# Altium footprint library Connector_Wire.PcbLib: 290 footprints (part 10 of 19)
Each footprint in its own frame and in the unit in brackets; x right, y up, seen from the top. Pads: shape width x height; smd on the part's side, far side on the other; paste and mask are expansions set on the pad; w line width, h text height; cw(c..) or ccw(c..) is an arc to the next point about the centre after c.
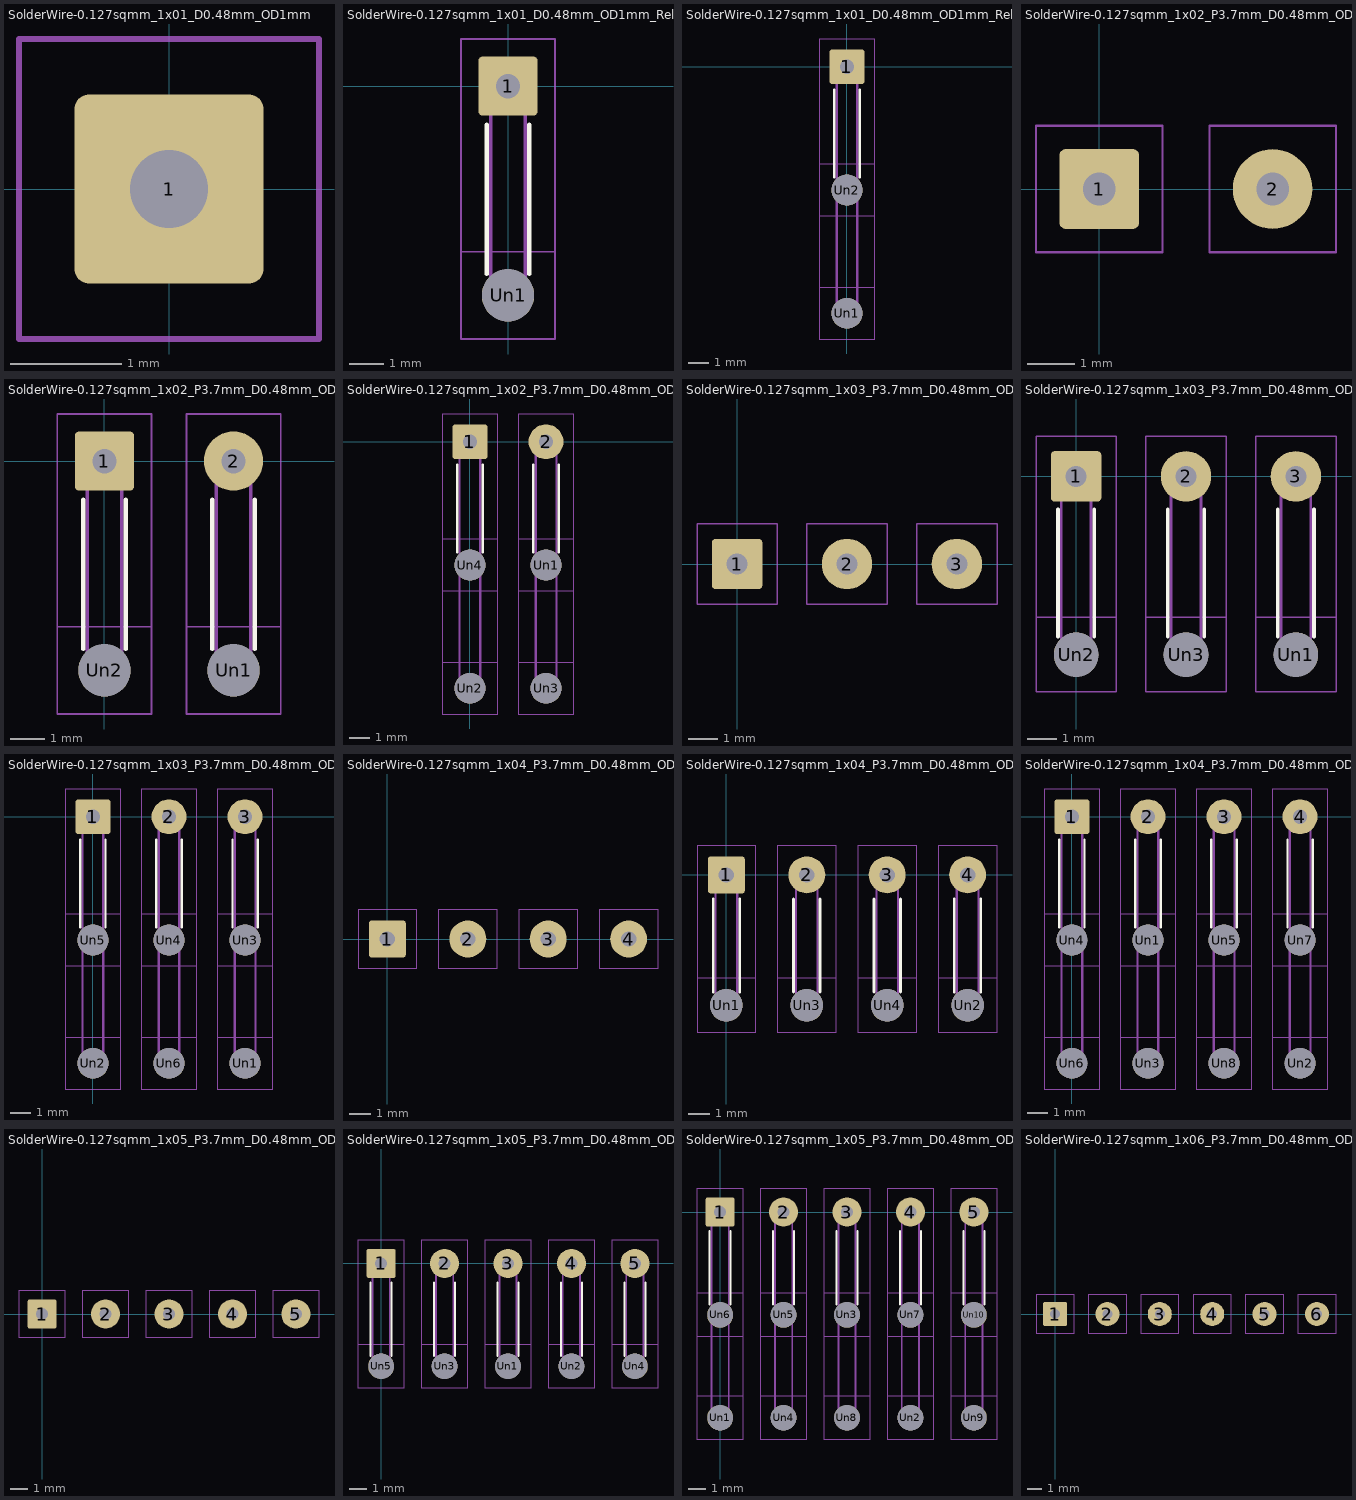
[diagram p9: the footprints below, top view; thin cyan lines are the x and y axes]

## SolderWire-0.127sqmm_1x01_D0.48mm_OD1mm [mm]
pads (1):
  rrect15% 1.7x1.7 hole 0.7: 1(0,0)
F.CrtYd:
  lines w0.05: -1.35,-1.35 1.35,-1.35 1.35,1.35 -1.35,1.35 -1.35,-1.35
F.Fab:
  circle w0.1: c0,0 r0.5
  text "'.Designator'" at -1.014,-0.213 h0.25

## SolderWire-0.127sqmm_1x01_D0.48mm_OD1mm_Relief [mm]
pads (2):
  rrect15% 1.7x1.7 hole 0.7: 1(0,0)
  round 1.5 hole 1.5: Un1(0,-6)
F.SilkS:
  lines w0.12: -0.61,-5.39 -0.61,-1.11 ; 0.61,-5.39 0.61,-1.11
B.CrtYd:
  lines w0.05: -1.35,-7.25 1.35,-7.25 1.35,-4.75 -1.35,-4.75 -1.35,-7.25
F.CrtYd:
  lines w0.05: -1.35,-7.25 -1.35,1.35 1.35,1.35 1.35,-7.25 -1.35,-7.25
F.Fab:
  circle w0.1: c0,0 r0.5
  circle w0.1: c0,-6 r0.5
  lines w0.1: -0.5,-6 -0.5,0 ; 0.5,-6 0.5,0
  text "'.Designator'" at 0.672,-6.237 h0.8

## SolderWire-0.127sqmm_1x01_D0.48mm_OD1mm_Relief2x [mm]
pads (3):
  rrect15% 1.7x1.7 hole 0.7: 1(0,0)
  round 1.5 hole 1.5: Un1(0,-12) Un2(0,-6)
F.SilkS:
  lines w0.12: -0.61,-5.39 -0.61,-1.11 ; 0.61,-5.39 0.61,-1.11
B.SilkS:
  lines w0.12: -0.61,-11.39 -0.61,-6.61 ; 0.61,-11.39 0.61,-6.61
B.CrtYd:
  lines w0.05: -1.35,-13.25 1.35,-13.25 1.35,-4.75 -1.35,-4.75 -1.35,-13.25
F.CrtYd:
  lines w0.05: -1.35,-13.25 -1.35,-10.75 1.35,-10.75 1.35,-13.25 -1.35,-13.25 ; -1.35,-7.25 -1.35,1.35 1.35,1.35 1.35,-7.25 -1.35,-7.25
B.Fab:
  circle w0.1: c0,-6 r0.5
  circle w0.1: c0,-12 r0.5
  lines w0.1: -0.5,-12 -0.5,-6 ; 0.5,-12 0.5,-6
F.Fab:
  circle w0.1: c0,0 r0.5
  circle w0.1: c0,-12 r0.5
  circle w0.1: c0,-6 r0.5
  lines w0.1: -0.5,-6 -0.5,0 ; 0.5,-6 0.5,0
  text "'.Designator'" at 0.672,-6.237 h0.8

## SolderWire-0.127sqmm_1x02_P3.7mm_D0.48mm_OD1mm [mm]
pads (2):
  rrect15% 1.7x1.7 hole 0.7: 1(0,0)
  round 1.7 hole 0.7: 2(3.7,0)
F.CrtYd:
  lines w0.05: -1.35,-1.35 -1.35,1.35 1.35,1.35 1.35,-1.35 -1.35,-1.35 ; 2.35,-1.35 2.35,1.35 5.05,1.35 5.05,-1.35 2.35,-1.35
F.Fab:
  circle w0.1: c3.7,0 r0.5
  circle w0.1: c0,0 r0.5
  text "'.Designator'" at 2.419,-2.75 h0.68

## SolderWire-0.127sqmm_1x02_P3.7mm_D0.48mm_OD1mm_Relief [mm]
pads (4):
  rrect15% 1.7x1.7 hole 0.7: 1(0,0)
  round 1.7 hole 0.7: 2(3.7,0)
  round 1.5 hole 1.5: Un1(3.7,-6) Un2(0,-6)
F.SilkS:
  lines w0.12: -0.61,-5.39 -0.61,-1.11 ; 0.61,-5.39 0.61,-1.11 ; 3.09,-5.39 3.09,-1.11 ; 4.31,-5.39 4.31,-1.11
B.CrtYd:
  lines w0.05: -1.35,-7.25 1.35,-7.25 1.35,-4.75 -1.35,-4.75 -1.35,-7.25 ; 2.35,-7.25 2.35,-4.75 5.05,-4.75 5.05,-7.25 2.35,-7.25
F.CrtYd:
  lines w0.05: -1.35,-7.25 -1.35,1.35 1.35,1.35 1.35,-7.25 -1.35,-7.25 ; 2.35,-7.25 2.35,1.35 5.05,1.35 5.05,-7.25 2.35,-7.25
F.Fab:
  circle w0.1: c0,0 r0.5
  circle w0.1: c3.7,0 r0.5
  circle w0.1: c0,-6 r0.5
  circle w0.1: c3.7,-6 r0.5
  lines w0.1: -0.5,-6 -0.5,0 ; 0.5,-6 0.5,0 ; 3.2,-6 3.2,0 ; 4.2,-6 4.2,0
  text "'.Designator'" at 2.522,-6.237 h0.8

## SolderWire-0.127sqmm_1x02_P3.7mm_D0.48mm_OD1mm_Relief2x [mm]
pads (6):
  rrect15% 1.7x1.7 hole 0.7: 1(0,0)
  round 1.7 hole 0.7: 2(3.7,0)
  round 1.5 hole 1.5: Un1(3.7,-6) Un2(0,-12) Un3(3.7,-12) Un4(0,-6)
F.SilkS:
  lines w0.12: -0.61,-5.39 -0.61,-1.11 ; 0.61,-5.39 0.61,-1.11 ; 3.09,-5.39 3.09,-1.11 ; 4.31,-5.39 4.31,-1.11
B.SilkS:
  lines w0.12: -0.61,-11.39 -0.61,-6.61 ; 0.61,-11.39 0.61,-6.61 ; 3.09,-11.39 3.09,-6.61 ; 4.31,-11.39 4.31,-6.61
B.CrtYd:
  lines w0.05: -1.35,-13.25 -1.35,-4.75 1.35,-4.75 1.35,-13.25 -1.35,-13.25 ; 2.35,-13.25 5.05,-13.25 5.05,-4.75 2.35,-4.75 2.35,-13.25
F.CrtYd:
  lines w0.05: -1.35,-13.25 1.35,-13.25 1.35,-10.75 -1.35,-10.75 -1.35,-13.25 ; -1.35,-7.25 -1.35,1.35 1.35,1.35 1.35,-7.25 -1.35,-7.25 ; 2.35,-13.25 2.35,-10.75 5.05,-10.75 5.05,-13.25 2.35,-13.25 ; 2.35,-7.25 2.35,1.35 5.05,1.35 5.05,-7.25 2.35,-7.25
B.Fab:
  circle w0.1: c0,-6 r0.5
  circle w0.1: c3.7,-12 r0.5
  circle w0.1: c3.7,-6 r0.5
  circle w0.1: c0,-12 r0.5
  lines w0.1: -0.5,-12 -0.5,-6 ; 0.5,-12 0.5,-6 ; 3.2,-12 3.2,-6 ; 4.2,-12 4.2,-6
F.Fab:
  circle w0.1: c0,-12 r0.5
  circle w0.1: c3.7,-6 r0.5
  circle w0.1: c3.7,0 r0.5
  circle w0.1: c3.7,-12 r0.5
  circle w0.1: c0,0 r0.5
  circle w0.1: c0,-6 r0.5
  lines w0.1: -0.5,-6 -0.5,0 ; 0.5,-6 0.5,0 ; 3.2,-6 3.2,0 ; 4.2,-6 4.2,0
  text "'.Designator'" at 2.522,-6.237 h0.8

## SolderWire-0.127sqmm_1x03_P3.7mm_D0.48mm_OD1mm [mm]
pads (3):
  rrect15% 1.7x1.7 hole 0.7: 1(0,0)
  round 1.7 hole 0.7: 2(3.7,0) 3(7.4,0)
F.CrtYd:
  lines w0.05: -1.35,-1.35 1.35,-1.35 1.35,1.35 -1.35,1.35 -1.35,-1.35 ; 2.35,-1.35 5.05,-1.35 5.05,1.35 2.35,1.35 2.35,-1.35 ; 6.05,-1.35 6.05,1.35 8.75,1.35 8.75,-1.35 6.05,-1.35
F.Fab:
  circle w0.1: c0,0 r0.5
  circle w0.1: c3.7,0 r0.5
  circle w0.1: c7.4,0 r0.5
  text "'.Designator'" at 2.686,-0.213 h0.25

## SolderWire-0.127sqmm_1x03_P3.7mm_D0.48mm_OD1mm_Relief [mm]
pads (6):
  rrect15% 1.7x1.7 hole 0.7: 1(0,0)
  round 1.7 hole 0.7: 2(3.7,0) 3(7.4,0)
  round 1.5 hole 1.5: Un1(7.4,-6) Un2(0,-6) Un3(3.7,-6)
F.SilkS:
  lines w0.12: -0.61,-5.39 -0.61,-1.11 ; 0.61,-5.39 0.61,-1.11 ; 3.09,-5.39 3.09,-1.11 ; 4.31,-5.39 4.31,-1.11 ; 6.79,-5.39 6.79,-1.11 ; 8.01,-5.39 8.01,-1.11
B.CrtYd:
  lines w0.05: -1.35,-7.25 -1.35,-4.75 1.35,-4.75 1.35,-7.25 -1.35,-7.25 ; 2.35,-7.25 2.35,-4.75 5.05,-4.75 5.05,-7.25 2.35,-7.25 ; 6.05,-7.25 6.05,-4.75 8.75,-4.75 8.75,-7.25 6.05,-7.25
F.CrtYd:
  lines w0.05: -1.35,-7.25 1.35,-7.25 1.35,1.35 -1.35,1.35 -1.35,-7.25 ; 2.35,-7.25 5.05,-7.25 5.05,1.35 2.35,1.35 2.35,-7.25 ; 6.05,-7.25 6.05,1.35 8.75,1.35 8.75,-7.25 6.05,-7.25
F.Fab:
  circle w0.1: c0,0 r0.5
  circle w0.1: c7.4,0 r0.5
  circle w0.1: c7.4,-6 r0.5
  circle w0.1: c3.7,0 r0.5
  circle w0.1: c0,-6 r0.5
  circle w0.1: c3.7,-6 r0.5
  lines w0.1: -0.5,-6 -0.5,0 ; 0.5,-6 0.5,0 ; 3.2,-6 3.2,0 ; 4.2,-6 4.2,0 ; 6.9,-6 6.9,0 ; 7.9,-6 7.9,0
  text "'.Designator'" at 4.372,-6.237 h0.8

## SolderWire-0.127sqmm_1x03_P3.7mm_D0.48mm_OD1mm_Relief2x [mm]
pads (9):
  rrect15% 1.7x1.7 hole 0.7: 1(0,0)
  round 1.7 hole 0.7: 2(3.7,0) 3(7.4,0)
  round 1.5 hole 1.5: Un1(7.4,-12) Un2(0,-12) Un3(7.4,-6) Un4(3.7,-6) Un5(0,-6) Un6(3.7,-12)
F.SilkS:
  lines w0.12: -0.61,-5.39 -0.61,-1.11 ; 0.61,-5.39 0.61,-1.11 ; 3.09,-5.39 3.09,-1.11 ; 4.31,-5.39 4.31,-1.11 ; 6.79,-5.39 6.79,-1.11 ; 8.01,-5.39 8.01,-1.11
B.SilkS:
  lines w0.12: -0.61,-11.39 -0.61,-6.61 ; 0.61,-11.39 0.61,-6.61 ; 3.09,-11.39 3.09,-6.61 ; 4.31,-11.39 4.31,-6.61 ; 6.79,-11.39 6.79,-6.61 ; 8.01,-11.39 8.01,-6.61
B.CrtYd:
  lines w0.05: -1.35,-13.25 1.35,-13.25 1.35,-4.75 -1.35,-4.75 -1.35,-13.25 ; 2.35,-13.25 5.05,-13.25 5.05,-4.75 2.35,-4.75 2.35,-13.25 ; 6.05,-13.25 8.75,-13.25 8.75,-4.75 6.05,-4.75 6.05,-13.25
F.CrtYd:
  lines w0.05: -1.35,-13.25 -1.35,-10.75 1.35,-10.75 1.35,-13.25 -1.35,-13.25 ; -1.35,-7.25 -1.35,1.35 1.35,1.35 1.35,-7.25 -1.35,-7.25 ; 2.35,-13.25 2.35,-10.75 5.05,-10.75 5.05,-13.25 2.35,-13.25 ; 2.35,-7.25 2.35,1.35 5.05,1.35 5.05,-7.25 2.35,-7.25 ; 6.05,-13.25 8.75,-13.25 8.75,-10.75 6.05,-10.75 6.05,-13.25 ; 6.05,-7.25 8.75,-7.25 8.75,1.35 6.05,1.35 6.05,-7.25
B.Fab:
  circle w0.1: c3.7,-12 r0.5
  circle w0.1: c0,-6 r0.5
  circle w0.1: c3.7,-6 r0.5
  circle w0.1: c0,-12 r0.5
  circle w0.1: c7.4,-6 r0.5
  circle w0.1: c7.4,-12 r0.5
  lines w0.1: -0.5,-12 -0.5,-6 ; 0.5,-12 0.5,-6 ; 3.2,-12 3.2,-6 ; 4.2,-12 4.2,-6 ; 6.9,-12 6.9,-6 ; 7.9,-12 7.9,-6
F.Fab:
  circle w0.1: c7.4,-12 r0.5
  circle w0.1: c0,0 r0.5
  circle w0.1: c3.7,-6 r0.5
  circle w0.1: c3.7,0 r0.5
  circle w0.1: c0,-12 r0.5
  circle w0.1: c7.4,0 r0.5
  circle w0.1: c0,-6 r0.5
  circle w0.1: c7.4,-6 r0.5
  circle w0.1: c3.7,-12 r0.5
  lines w0.1: -0.5,-6 -0.5,0 ; 0.5,-6 0.5,0 ; 3.2,-6 3.2,0 ; 4.2,-6 4.2,0 ; 6.9,-6 6.9,0 ; 7.9,-6 7.9,0
  text "'.Designator'" at 4.372,-6.237 h0.8

## SolderWire-0.127sqmm_1x04_P3.7mm_D0.48mm_OD1mm [mm]
pads (4):
  rrect15% 1.7x1.7 hole 0.7: 1(0,0)
  round 1.7 hole 0.7: 2(3.7,0) 3(7.4,0) 4(11.1,0)
F.CrtYd:
  lines w0.05: -1.35,-1.35 1.35,-1.35 1.35,1.35 -1.35,1.35 -1.35,-1.35 ; 2.35,-1.35 2.35,1.35 5.05,1.35 5.05,-1.35 2.35,-1.35 ; 6.05,-1.35 8.75,-1.35 8.75,1.35 6.05,1.35 6.05,-1.35 ; 9.75,-1.35 12.45,-1.35 12.45,1.35 9.75,1.35 9.75,-1.35
F.Fab:
  circle w0.1: c3.7,0 r0.5
  circle w0.1: c0,0 r0.5
  circle w0.1: c11.1,0 r0.5
  circle w0.1: c7.4,0 r0.5
  text "'.Designator'" at 6.119,-2.75 h0.68

## SolderWire-0.127sqmm_1x04_P3.7mm_D0.48mm_OD1mm_Relief [mm]
pads (8):
  rrect15% 1.7x1.7 hole 0.7: 1(0,0)
  round 1.7 hole 0.7: 2(3.7,0) 3(7.4,0) 4(11.1,0)
  round 1.5 hole 1.5: Un1(0,-6) Un2(11.1,-6) Un3(3.7,-6) Un4(7.4,-6)
F.SilkS:
  lines w0.12: -0.61,-5.39 -0.61,-1.11 ; 0.61,-5.39 0.61,-1.11 ; 3.09,-5.39 3.09,-1.11 ; 4.31,-5.39 4.31,-1.11 ; 6.79,-5.39 6.79,-1.11 ; 8.01,-5.39 8.01,-1.11 ; 10.49,-5.39 10.49,-1.11 ; 11.71,-5.39 11.71,-1.11
B.CrtYd:
  lines w0.05: -1.35,-7.25 1.35,-7.25 1.35,-4.75 -1.35,-4.75 -1.35,-7.25 ; 2.35,-7.25 5.05,-7.25 5.05,-4.75 2.35,-4.75 2.35,-7.25 ; 6.05,-7.25 6.05,-4.75 8.75,-4.75 8.75,-7.25 6.05,-7.25 ; 9.75,-7.25 9.75,-4.75 12.45,-4.75 12.45,-7.25 9.75,-7.25
F.CrtYd:
  lines w0.05: -1.35,-7.25 -1.35,1.35 1.35,1.35 1.35,-7.25 -1.35,-7.25 ; 2.35,-7.25 5.05,-7.25 5.05,1.35 2.35,1.35 2.35,-7.25 ; 6.05,-7.25 8.75,-7.25 8.75,1.35 6.05,1.35 6.05,-7.25 ; 9.75,-7.25 9.75,1.35 12.45,1.35 12.45,-7.25 9.75,-7.25
F.Fab:
  circle w0.1: c3.7,-6 r0.5
  circle w0.1: c0,-6 r0.5
  circle w0.1: c11.1,-6 r0.5
  circle w0.1: c7.4,0 r0.5
  circle w0.1: c3.7,0 r0.5
  circle w0.1: c0,0 r0.5
  circle w0.1: c7.4,-6 r0.5
  circle w0.1: c11.1,0 r0.5
  lines w0.1: -0.5,-6 -0.5,0 ; 0.5,-6 0.5,0 ; 3.2,-6 3.2,0 ; 4.2,-6 4.2,0 ; 6.9,-6 6.9,0 ; 7.9,-6 7.9,0 ; 10.6,-6 10.6,0 ; 11.6,-6 11.6,0
  text "'.Designator'" at 6.222,-6.237 h0.8

## SolderWire-0.127sqmm_1x04_P3.7mm_D0.48mm_OD1mm_Relief2x [mm]
pads (12):
  rrect15% 1.7x1.7 hole 0.7: 1(0,0)
  round 1.7 hole 0.7: 2(3.7,0) 3(7.4,0) 4(11.1,0)
  round 1.5 hole 1.5: Un1(3.7,-6) Un2(11.1,-12) Un3(3.7,-12) Un4(0,-6) Un5(7.4,-6) Un6(0,-12) Un7(11.1,-6) Un8(7.4,-12)
F.SilkS:
  lines w0.12: -0.61,-5.39 -0.61,-1.11 ; 0.61,-5.39 0.61,-1.11 ; 3.09,-5.39 3.09,-1.11 ; 4.31,-5.39 4.31,-1.11 ; 6.79,-5.39 6.79,-1.11 ; 8.01,-5.39 8.01,-1.11 ; 10.49,-5.39 10.49,-1.11 ; 11.71,-5.39 11.71,-1.11
B.SilkS:
  lines w0.12: -0.61,-11.39 -0.61,-6.61 ; 0.61,-11.39 0.61,-6.61 ; 3.09,-11.39 3.09,-6.61 ; 4.31,-11.39 4.31,-6.61 ; 6.79,-11.39 6.79,-6.61 ; 8.01,-11.39 8.01,-6.61 ; 10.49,-11.39 10.49,-6.61 ; 11.71,-11.39 11.71,-6.61
B.CrtYd:
  lines w0.05: -1.35,-13.25 -1.35,-4.75 1.35,-4.75 1.35,-13.25 -1.35,-13.25 ; 2.35,-13.25 2.35,-4.75 5.05,-4.75 5.05,-13.25 2.35,-13.25 ; 6.05,-13.25 6.05,-4.75 8.75,-4.75 8.75,-13.25 6.05,-13.25 ; 9.75,-13.25 9.75,-4.75 12.45,-4.75 12.45,-13.25 9.75,-13.25
F.CrtYd:
  lines w0.05: -1.35,-13.25 1.35,-13.25 1.35,-10.75 -1.35,-10.75 -1.35,-13.25 ; -1.35,-7.25 1.35,-7.25 1.35,1.35 -1.35,1.35 -1.35,-7.25 ; 2.35,-13.25 2.35,-10.75 5.05,-10.75 5.05,-13.25 2.35,-13.25 ; 2.35,-7.25 5.05,-7.25 5.05,1.35 2.35,1.35 2.35,-7.25 ; 6.05,-13.25 6.05,-10.75 8.75,-10.75 8.75,-13.25 6.05,-13.25 ; 6.05,-7.25 8.75,-7.25 8.75,1.35 6.05,1.35 6.05,-7.25 ; 9.75,-13.25 12.45,-13.25 12.45,-10.75 9.75,-10.75 9.75,-13.25 ; 9.75,-7.25 12.45,-7.25 12.45,1.35 9.75,1.35 9.75,-7.25
B.Fab:
  circle w0.1: c11.1,-6 r0.5
  circle w0.1: c7.4,-12 r0.5
  circle w0.1: c7.4,-6 r0.5
  circle w0.1: c3.7,-6 r0.5
  circle w0.1: c3.7,-12 r0.5
  circle w0.1: c11.1,-12 r0.5
  circle w0.1: c0,-6 r0.5
  circle w0.1: c0,-12 r0.5
  lines w0.1: -0.5,-12 -0.5,-6 ; 0.5,-12 0.5,-6 ; 3.2,-12 3.2,-6 ; 4.2,-12 4.2,-6 ; 6.9,-12 6.9,-6 ; 7.9,-12 7.9,-6 ; 10.6,-12 10.6,-6 ; 11.6,-12 11.6,-6
F.Fab:
  circle w0.1: c7.4,-6 r0.5
  circle w0.1: c7.4,0 r0.5
  circle w0.1: c0,0 r0.5
  circle w0.1: c0,-6 r0.5
  circle w0.1: c0,-12 r0.5
  circle w0.1: c3.7,0 r0.5
  circle w0.1: c11.1,-12 r0.5
  circle w0.1: c3.7,-12 r0.5
  circle w0.1: c11.1,0 r0.5
  circle w0.1: c7.4,-12 r0.5
  circle w0.1: c11.1,-6 r0.5
  circle w0.1: c3.7,-6 r0.5
  lines w0.1: -0.5,-6 -0.5,0 ; 0.5,-6 0.5,0 ; 3.2,-6 3.2,0 ; 4.2,-6 4.2,0 ; 6.9,-6 6.9,0 ; 7.9,-6 7.9,0 ; 10.6,-6 10.6,0 ; 11.6,-6 11.6,0
  text "'.Designator'" at 6.222,-6.237 h0.8

## SolderWire-0.127sqmm_1x05_P3.7mm_D0.48mm_OD1mm [mm]
pads (5):
  rrect15% 1.7x1.7 hole 0.7: 1(0,0)
  round 1.7 hole 0.7: 2(3.7,0) 3(7.4,0) 4(11.1,0) 5(14.8,0)
F.CrtYd:
  lines w0.05: -1.35,-1.35 1.35,-1.35 1.35,1.35 -1.35,1.35 -1.35,-1.35 ; 2.35,-1.35 5.05,-1.35 5.05,1.35 2.35,1.35 2.35,-1.35 ; 6.05,-1.35 8.75,-1.35 8.75,1.35 6.05,1.35 6.05,-1.35 ; 9.75,-1.35 12.45,-1.35 12.45,1.35 9.75,1.35 9.75,-1.35 ; 13.45,-1.35 13.45,1.35 16.15,1.35 16.15,-1.35 13.45,-1.35
F.Fab:
  circle w0.1: c3.7,0 r0.5
  circle w0.1: c14.8,0 r0.5
  circle w0.1: c7.4,0 r0.5
  circle w0.1: c11.1,0 r0.5
  circle w0.1: c0,0 r0.5
  text "'.Designator'" at 6.386,-0.213 h0.25

## SolderWire-0.127sqmm_1x05_P3.7mm_D0.48mm_OD1mm_Relief [mm]
pads (10):
  rrect15% 1.7x1.7 hole 0.7: 1(0,0)
  round 1.7 hole 0.7: 2(3.7,0) 3(7.4,0) 4(11.1,0) 5(14.8,0)
  round 1.5 hole 1.5: Un1(7.4,-6) Un2(11.1,-6) Un3(3.7,-6) Un4(14.8,-6) Un5(0,-6)
F.SilkS:
  lines w0.12: -0.61,-5.39 -0.61,-1.11 ; 0.61,-5.39 0.61,-1.11 ; 3.09,-5.39 3.09,-1.11 ; 4.31,-5.39 4.31,-1.11 ; 6.79,-5.39 6.79,-1.11 ; 8.01,-5.39 8.01,-1.11 ; 10.49,-5.39 10.49,-1.11 ; 11.71,-5.39 11.71,-1.11 ; 14.19,-5.39 14.19,-1.11 ; 15.41,-5.39 15.41,-1.11
B.CrtYd:
  lines w0.05: -1.35,-7.25 1.35,-7.25 1.35,-4.75 -1.35,-4.75 -1.35,-7.25 ; 2.35,-7.25 2.35,-4.75 5.05,-4.75 5.05,-7.25 2.35,-7.25 ; 6.05,-7.25 8.75,-7.25 8.75,-4.75 6.05,-4.75 6.05,-7.25 ; 9.75,-7.25 12.45,-7.25 12.45,-4.75 9.75,-4.75 9.75,-7.25 ; 13.45,-7.25 13.45,-4.75 16.15,-4.75 16.15,-7.25 13.45,-7.25
F.CrtYd:
  lines w0.05: -1.35,-7.25 1.35,-7.25 1.35,1.35 -1.35,1.35 -1.35,-7.25 ; 2.35,-7.25 5.05,-7.25 5.05,1.35 2.35,1.35 2.35,-7.25 ; 6.05,-7.25 6.05,1.35 8.75,1.35 8.75,-7.25 6.05,-7.25 ; 9.75,-7.25 12.45,-7.25 12.45,1.35 9.75,1.35 9.75,-7.25 ; 13.45,-7.25 13.45,1.35 16.15,1.35 16.15,-7.25 13.45,-7.25
F.Fab:
  circle w0.1: c0,0 r0.5
  circle w0.1: c7.4,-6 r0.5
  circle w0.1: c14.8,-6 r0.5
  circle w0.1: c11.1,0 r0.5
  circle w0.1: c7.4,0 r0.5
  circle w0.1: c3.7,-6 r0.5
  circle w0.1: c14.8,0 r0.5
  circle w0.1: c11.1,-6 r0.5
  circle w0.1: c0,-6 r0.5
  circle w0.1: c3.7,0 r0.5
  lines w0.1: -0.5,-6 -0.5,0 ; 0.5,-6 0.5,0 ; 3.2,-6 3.2,0 ; 4.2,-6 4.2,0 ; 6.9,-6 6.9,0 ; 7.9,-6 7.9,0 ; 10.6,-6 10.6,0 ; 11.6,-6 11.6,0 ; 14.3,-6 14.3,0 ; 15.3,-6 15.3,0
  text "'.Designator'" at 8.072,-6.237 h0.8

## SolderWire-0.127sqmm_1x05_P3.7mm_D0.48mm_OD1mm_Relief2x [mm]
pads (15):
  rrect15% 1.7x1.7 hole 0.7: 1(0,0)
  round 1.7 hole 0.7: 2(3.7,0) 3(7.4,0) 4(11.1,0) 5(14.8,0)
  round 1.5 hole 1.5: Un1(0,-12) Un2(11.1,-12) Un3(7.4,-6) Un4(3.7,-12) Un5(3.7,-6) Un6(0,-6) Un7(11.1,-6) Un8(7.4,-12) Un9(14.8,-12) Un10(14.8,-6)
F.SilkS:
  lines w0.12: -0.61,-5.39 -0.61,-1.11 ; 0.61,-5.39 0.61,-1.11 ; 3.09,-5.39 3.09,-1.11 ; 4.31,-5.39 4.31,-1.11 ; 6.79,-5.39 6.79,-1.11 ; 8.01,-5.39 8.01,-1.11 ; 10.49,-5.39 10.49,-1.11 ; 11.71,-5.39 11.71,-1.11 ; 14.19,-5.39 14.19,-1.11 ; 15.41,-5.39 15.41,-1.11
B.SilkS:
  lines w0.12: -0.61,-11.39 -0.61,-6.61 ; 0.61,-11.39 0.61,-6.61 ; 3.09,-11.39 3.09,-6.61 ; 4.31,-11.39 4.31,-6.61 ; 6.79,-11.39 6.79,-6.61 ; 8.01,-11.39 8.01,-6.61 ; 10.49,-11.39 10.49,-6.61 ; 11.71,-11.39 11.71,-6.61 ; 14.19,-11.39 14.19,-6.61 ; 15.41,-11.39 15.41,-6.61
B.CrtYd:
  lines w0.05: -1.35,-13.25 -1.35,-4.75 1.35,-4.75 1.35,-13.25 -1.35,-13.25 ; 2.35,-13.25 5.05,-13.25 5.05,-4.75 2.35,-4.75 2.35,-13.25 ; 6.05,-13.25 6.05,-4.75 8.75,-4.75 8.75,-13.25 6.05,-13.25 ; 9.75,-13.25 12.45,-13.25 12.45,-4.75 9.75,-4.75 9.75,-13.25 ; 13.45,-13.25 16.15,-13.25 16.15,-4.75 13.45,-4.75 13.45,-13.25
F.CrtYd:
  lines w0.05: -1.35,-13.25 1.35,-13.25 1.35,-10.75 -1.35,-10.75 -1.35,-13.25 ; -1.35,-7.25 -1.35,1.35 1.35,1.35 1.35,-7.25 -1.35,-7.25 ; 2.35,-13.25 2.35,-10.75 5.05,-10.75 5.05,-13.25 2.35,-13.25 ; 2.35,-7.25 2.35,1.35 5.05,1.35 5.05,-7.25 2.35,-7.25 ; 6.05,-13.25 6.05,-10.75 8.75,-10.75 8.75,-13.25 6.05,-13.25 ; 6.05,-7.25 8.75,-7.25 8.75,1.35 6.05,1.35 6.05,-7.25 ; 9.75,-13.25 9.75,-10.75 12.45,-10.75 12.45,-13.25 9.75,-13.25 ; 9.75,-7.25 12.45,-7.25 12.45,1.35 9.75,1.35 9.75,-7.25 ; 13.45,-13.25 13.45,-10.75 16.15,-10.75 16.15,-13.25 13.45,-13.25 ; 13.45,-7.25 13.45,1.35 16.15,1.35 16.15,-7.25 13.45,-7.25
B.Fab:
  circle w0.1: c14.8,-6 r0.5
  circle w0.1: c3.7,-12 r0.5
  circle w0.1: c7.4,-12 r0.5
  circle w0.1: c11.1,-12 r0.5
  circle w0.1: c0,-12 r0.5
  circle w0.1: c0,-6 r0.5
  circle w0.1: c7.4,-6 r0.5
  circle w0.1: c14.8,-12 r0.5
  circle w0.1: c3.7,-6 r0.5
  circle w0.1: c11.1,-6 r0.5
  lines w0.1: -0.5,-12 -0.5,-6 ; 0.5,-12 0.5,-6 ; 3.2,-12 3.2,-6 ; 4.2,-12 4.2,-6 ; 6.9,-12 6.9,-6 ; 7.9,-12 7.9,-6 ; 10.6,-12 10.6,-6 ; 11.6,-12 11.6,-6 ; 14.3,-12 14.3,-6 ; 15.3,-12 15.3,-6
F.Fab:
  circle w0.1: c14.8,-12 r0.5
  circle w0.1: c11.1,-12 r0.5
  circle w0.1: c14.8,-6 r0.5
  circle w0.1: c7.4,0 r0.5
  circle w0.1: c11.1,-6 r0.5
  circle w0.1: c14.8,0 r0.5
  circle w0.1: c3.7,-12 r0.5
  circle w0.1: c3.7,-6 r0.5
  circle w0.1: c0,-6 r0.5
  circle w0.1: c0,0 r0.5
  circle w0.1: c7.4,-12 r0.5
  circle w0.1: c0,-12 r0.5
  circle w0.1: c11.1,0 r0.5
  circle w0.1: c3.7,0 r0.5
  circle w0.1: c7.4,-6 r0.5
  lines w0.1: -0.5,-6 -0.5,0 ; 0.5,-6 0.5,0 ; 3.2,-6 3.2,0 ; 4.2,-6 4.2,0 ; 6.9,-6 6.9,0 ; 7.9,-6 7.9,0 ; 10.6,-6 10.6,0 ; 11.6,-6 11.6,0 ; 14.3,-6 14.3,0 ; 15.3,-6 15.3,0
  text "'.Designator'" at 8.072,-6.237 h0.8

## SolderWire-0.127sqmm_1x06_P3.7mm_D0.48mm_OD1mm [mm]
pads (6):
  rrect15% 1.7x1.7 hole 0.7: 1(0,0)
  round 1.7 hole 0.7: 2(3.7,0) 3(7.4,0) 4(11.1,0) 5(14.8,0) 6(18.5,0)
F.CrtYd:
  lines w0.05: -1.35,-1.35 -1.35,1.35 1.35,1.35 1.35,-1.35 -1.35,-1.35 ; 2.35,-1.35 5.05,-1.35 5.05,1.35 2.35,1.35 2.35,-1.35 ; 6.05,-1.35 6.05,1.35 8.75,1.35 8.75,-1.35 6.05,-1.35 ; 9.75,-1.35 12.45,-1.35 12.45,1.35 9.75,1.35 9.75,-1.35 ; 13.45,-1.35 16.15,-1.35 16.15,1.35 13.45,1.35 13.45,-1.35 ; 17.15,-1.35 17.15,1.35 19.85,1.35 19.85,-1.35 17.15,-1.35
F.Fab:
  circle w0.1: c0,0 r0.5
  circle w0.1: c18.5,0 r0.5
  circle w0.1: c7.4,0 r0.5
  circle w0.1: c11.1,0 r0.5
  circle w0.1: c3.7,0 r0.5
  circle w0.1: c14.8,0 r0.5
  text "'.Designator'" at 9.819,-2.75 h0.68